# Altium footprint library DPRAM.PcbLib: 1 footprints
Each footprint in its own frame and in the unit in brackets; x right, y up, seen from the top. Pads: shape width x height; smd on the part's side, far side on the other; paste and mask are expansions set on the pad; w line width, h text height; cw(c..) or ccw(c..) is an arc to the next point about the centre after c.
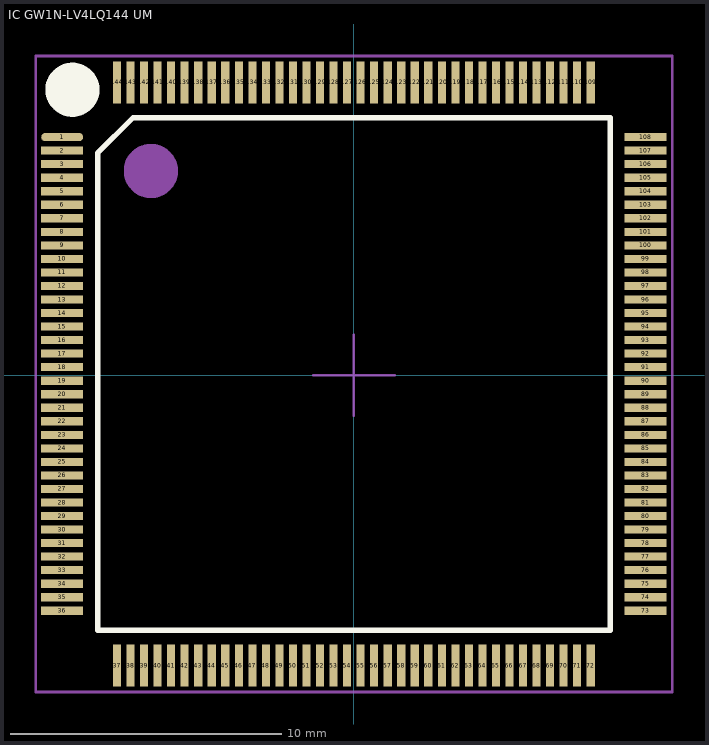
[diagram p0: the footprint, top view; thin cyan lines are the x and y axes]

## IC GW1N-LV4LQ144 UM [mm] "FPGA - Field Programmable Gate Array"
pads (144):
  oval 1.55x0.3 smd: 1(-10.775,8.8)
  rect 1.55x0.3 smd: 2(-10.775,8.3) 3(-10.775,7.8) 4(-10.775,7.3) 5(-10.775,6.8) 6(-10.775,6.3) 7(-10.775,5.8) 8(-10.775,5.3) 9(-10.775,4.8) 10(-10.775,4.3) 11(-10.775,3.8) 12(-10.775,3.3) 13(-10.775,2.8) 14(-10.775,2.3) 15(-10.775,1.8) 16(-10.775,1.3) 17(-10.775,0.8) 18(-10.775,0.3) 19(-10.775,-0.2) 20(-10.775,-0.7) 21(-10.775,-1.2) 22(-10.775,-1.7) 23(-10.775,-2.2) 24(-10.775,-2.7) 25(-10.775,-3.2) 26(-10.775,-3.7) 27(-10.775,-4.2) 28(-10.775,-4.7) 29(-10.775,-5.2) 30(-10.775,-5.7) 31(-10.775,-6.2) 32(-10.775,-6.7) 33(-10.775,-7.2) 34(-10.775,-7.7) 35(-10.775,-8.2) 36(-10.775,-8.7) 73(10.775,-8.7) 74(10.775,-8.2) 75(10.775,-7.7) 76(10.775,-7.2) 77(10.775,-6.7) 78(10.775,-6.2) 79(10.775,-5.7) 80(10.775,-5.2) 81(10.775,-4.7) 82(10.775,-4.2) 83(10.775,-3.7) 84(10.775,-3.2) 85(10.775,-2.7) 86(10.775,-2.2) 87(10.775,-1.7) 88(10.775,-1.2) 89(10.775,-0.7) 90(10.775,-0.2) 91(10.775,0.3) 92(10.775,0.8) 93(10.775,1.3) 94(10.775,1.8) 95(10.775,2.3) 96(10.775,2.8) 97(10.775,3.3) 98(10.775,3.8) 99(10.775,4.3) 100(10.775,4.8) 101(10.775,5.3) 102(10.775,5.8) 103(10.775,6.3) 104(10.775,6.8) 105(10.775,7.3) 106(10.775,7.8) 107(10.775,8.3) 108(10.775,8.8)
  rect 0.3x1.55 smd: 37(-8.75,-10.725) 38(-8.25,-10.725) 39(-7.75,-10.725) 40(-7.25,-10.725) 41(-6.75,-10.725) 42(-6.25,-10.725) 43(-5.75,-10.725) 44(-5.25,-10.725) 45(-4.75,-10.725) 46(-4.25,-10.725) 47(-3.75,-10.725) 48(-3.25,-10.725) 49(-2.75,-10.725) 50(-2.25,-10.725) 51(-1.75,-10.725) 52(-1.25,-10.725) 53(-0.75,-10.725) 54(-0.25,-10.725) 55(0.25,-10.725) 56(0.75,-10.725) 57(1.25,-10.725) 58(1.75,-10.725) 59(2.25,-10.725) 60(2.75,-10.725) 61(3.25,-10.725) 62(3.75,-10.725) 63(4.25,-10.725) 64(4.75,-10.725) 65(5.25,-10.725) 66(5.75,-10.725) 67(6.25,-10.725) 68(6.75,-10.725) 69(7.25,-10.725) 70(7.75,-10.725) 71(8.25,-10.725) 72(8.75,-10.725) 109(8.75,10.825) 110(8.25,10.825) 111(7.75,10.825) 112(7.25,10.825) 113(6.75,10.825) 114(6.25,10.825) 115(5.75,10.825) 116(5.25,10.825) 117(4.75,10.825) 118(4.25,10.825) 119(3.75,10.825) 120(3.25,10.825) 121(2.75,10.825) 122(2.25,10.825) 123(1.75,10.825) 124(1.25,10.825) 125(0.75,10.825) 126(0.25,10.825) 127(-0.25,10.825) 128(-0.75,10.825) 129(-1.25,10.825) 130(-1.75,10.825) 131(-2.25,10.825) 132(-2.75,10.825) 133(-3.25,10.825) 134(-3.75,10.825) 135(-4.25,10.825) 136(-4.75,10.825) 137(-5.25,10.825) 138(-5.75,10.825) 139(-6.25,10.825) 140(-6.75,10.825) 141(-7.25,10.825) 142(-7.75,10.825) 143(-8.25,10.825) 144(-8.75,10.825)
Top Overlay:
  circle w1.2: c-10.4,10.55 r0.4
  lines w0.2: -9.465,-9.415 9.465,-9.415 9.465,9.515 -8.155,9.515 -9.465,8.205 -9.465,-9.415
Top Assembly:
  circle w1.2: c-7.5,7.55 r0.4
  lines w0.1: -9.465,-9.415 9.465,-9.415 9.465,9.515 -8.155,9.515 -9.465,8.205 -9.465,-9.415
  text ".Designator" at -4,1.238 h1.52
Top Courtyard:
  lines w0.1: -11.75,-11.704 -11.75,11.799 11.761,11.8 11.76,-11.704 ; -11.75,-11.7 11.76,-11.7 ; -1.5,0 1.5,0 ; 0,-1.5 0,1.5
3D body "User Library-LQFP144-2.STEP": height 1.6, standoff 0, extent -11.075,-11.025 11.075,11.125